# Altium schematic symbol library CC0805KKX5R8BB475.SchLib: 1 symbol
Pins are listed as number, name and electrical type; pins without a type are passive.

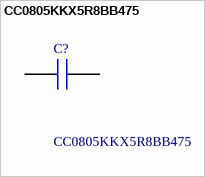
[diagram p0: symbol CC0805KKX5R8BB475]

## CC0805KKX5R8BB475
designator C?
Multilayer Ceramic Capacitors MLCC - SMD/SMT 25 V 4.7uF X5R 0805 10%; Manufacturer_Name: Yageo Group; Geometry.Height: 1.45mm; Mouser Part Number: 603-CC805KKX5R8BB475; Mouser Price/Stock: https://www.mouser.co.uk/ProductDetail/YAGEO/CC0805KKX5R8BB475?qs=7s%252B3O6pAiyDL6ei0t8hmEw%3D%3D; Manufacturer_Part_Number: CC0805KKX5R8BB475; Datasheet Link: https://www.mouser.in/ProductDetail/YAGEO/CC0805KKX5R8BB475?qs=7s%252B3O6pAiyDL6ei0t8hmEw%3D%3D
footprint CAPC2012X145N
pins: 1, 2